# EAGLE library part 2450BM15B0002 (library Balun)
2.45 GHz Balun / Matching Network : Optimized for TI Chipset CC2520
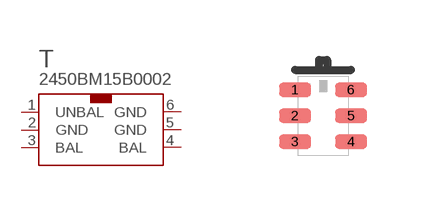
[diagram p0: symbol with the pads of 6PIN_2MMX1.25MM; footprint 6PIN_2MMX1.25MM]

Designator prefix T

## 2450BM15B0002 (PARTNO: 12-100028-00)  [6PIN_2MMX1.25MM]
1  UNBAL  pas
2  GND  pwr
3  BAL  pas
4  BAL  pwr
5  GND  pwr
6  GND  pwr

## Footprint 6PIN_2MMX1.25MM (pad centres in mm)
Balun footprint. 6-pin 2.0mm x 1.25mm body
smd 0.8 x 0.35: 1 -0.7,0.65; 2 -0.7,0; 3 -0.7,-0.65; 4 0.7,-0.65; 5 0.7,0; 6 0.7,0.65